# Altium footprint library DIP-16.PcbLib: 5 footprints
Each footprint in its own frame and in the unit in brackets; x right, y up, seen from the top. Pads: shape width x height; smd on the part's side, far side on the other; paste and mask are expansions set on the pad; w line width, h text height; cw(c..) or ccw(c..) is an arc to the next point about the centre after c.
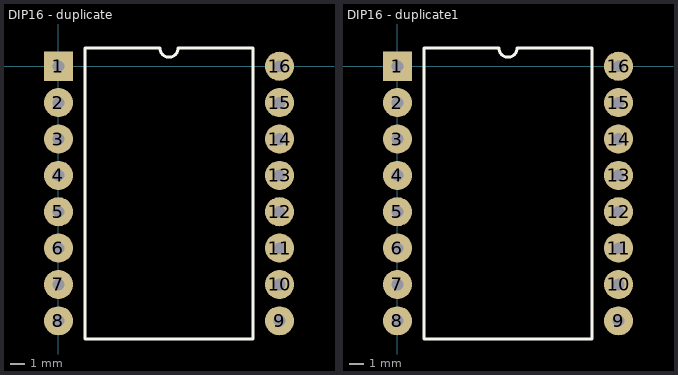
[diagram p0: the footprints below, top view; thin cyan lines are the x and y axes]

## DIP16 [mm]

## DIP16 - duplicate [mm]
pads (16):
  rect 2x2 hole 0.8: 1(0,0)
  round 2 hole 0.8: 2(0,-2.5) 3(0,-5) 4(0,-7.5) 5(0,-10) 6(0,-12.5) 7(0,-15) 8(0,-17.5) 9(15.2,-17.5) 10(15.2,-15) 11(15.2,-12.5) 12(15.2,-10) 13(15.2,-7.5) 14(15.2,-5) 15(15.2,-2.5) 16(15.2,0)
Top Overlay:
  lines w0.2: 1.835,-18.75 1.835,1.25 6.975,1.25 ccw(c7.6,1.25) 8.225,1.25 13.365,1.25 13.365,-18.75 1.835,-18.75

## DIP16 - duplicate1 [mm]
pads (16):
  rect 2x2 hole 0.8: 1(0,0)
  round 2 hole 0.8: 2(0,-2.5) 3(0,-5) 4(0,-7.5) 5(0,-10) 6(0,-12.5) 7(0,-15) 8(0,-17.5) 9(15.2,-17.5) 10(15.2,-15) 11(15.2,-12.5) 12(15.2,-10) 13(15.2,-7.5) 14(15.2,-5) 15(15.2,-2.5) 16(15.2,0)
Top Overlay:
  lines w0.2: 1.835,-18.75 1.835,1.25 6.975,1.25 ccw(c7.6,1.25) 8.225,1.25 13.365,1.25 13.365,-18.75 1.835,-18.75

## PCBComponent_1 [mm]

## PCBComponent_1 - duplicate [mm]